# EAGLE library part MSP430FR5994IRGZT (library chips)
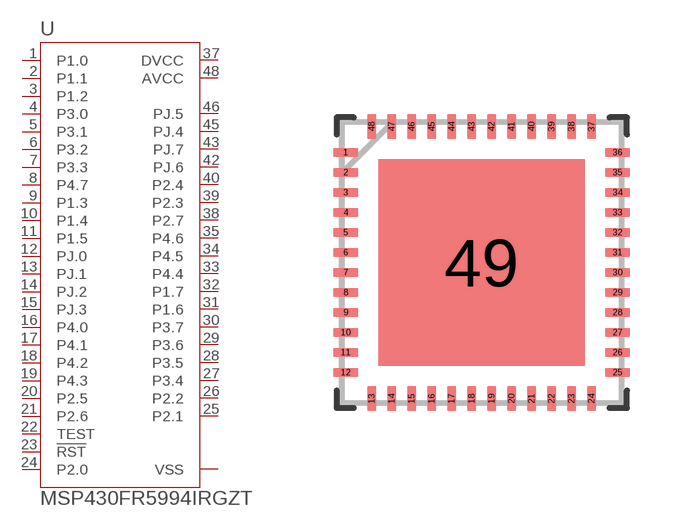
[diagram p96: symbol with the pads of RGZ0048A; footprint RGZ0048A]

Designator prefix U

## MSP430FR5994IRGZT (MANUFACTURER_PART_NUMBER: MSP430FR5994IRGZT; VENDOR: Texas Instruments)  [RGZ0048A]
1  P1.0
2  P1.1
3  P1.2
4  P3.0
5  P3.1
6  P3.2
7  P3.3
8  P4.7
9  P1.3
10  P1.4
11  P1.5
12  PJ.0
13  PJ.1
14  PJ.2
15  PJ.3
16  P4.0
17  P4.1
18  P4.2
19  P4.3
20  P2.5
21  P2.6
22  TEST  in
23  !RST
24  P2.0
25  P2.1
26  P2.2
27  P3.4
28  P3.5
29  P3.6
30  P3.7
31  P1.6
32  P1.7
33  P4.4
34  P4.5
35  P4.6
37  DVCC  pwr
38  P2.7
39  P2.3
40  P2.4
42  PJ.6
43  PJ.7
45  PJ.4
46  PJ.5
48  AVCC  pwr

## Footprint RGZ0048A (pad centres in mm)
smd 0.61 x 0.229: 1 -3.4,2.75; 2 -3.4,2.25; 3 -3.4,1.75; 4 -3.4,1.25; 5 -3.4,0.75; 6 -3.4,0.25; 7 -3.4,-0.25; 8 -3.4,-0.75; 9 -3.4,-1.25; 10 -3.4,-1.75; 11 -3.4,-2.25; 12 -3.4,-2.75; 25 3.4,-2.75; 26 3.4,-2.25; 27 3.4,-1.75; 28 3.4,-1.25; 29 3.4,-0.75; 30 3.4,-0.25; 31 3.4,0.25; 32 3.4,0.75; 33 3.4,1.25; 34 3.4,1.75; 35 3.4,2.25; 36 3.4,2.75
smd 0.229 x 0.61: 13 -2.75,-3.4; 14 -2.25,-3.4; 15 -1.75,-3.4; 16 -1.25,-3.4; 17 -0.75,-3.4; 18 -0.25,-3.4; 19 0.25,-3.4; 20 0.75,-3.4; 21 1.25,-3.4; 22 1.75,-3.4; 23 2.25,-3.4; 24 2.75,-3.4; 37 2.75,3.4; 38 2.25,3.4; 39 1.75,3.4; 40 1.25,3.4; 41 0.75,3.4; 42 0.25,3.4; 43 -0.25,3.4; 44 -0.75,3.4; 45 -1.25,3.4; 46 -1.75,3.4; 47 -2.25,3.4; 48 -2.75,3.4
smd 5.156 x 5.156: 49 0,0